# Altium schematic symbol library SCH - BATTERY HOLDER - GENERIC.SCHLIB: 1 symbol
Pins are listed as number, name and electrical type; pins without a type are passive.

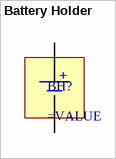
[diagram p0: symbol Battery Holder]

## Battery Holder
designator BH?
pins: 1 +, 2 -